# Altium footprint library PcbLib1.PcbLib: 42 footprints (part 1 of 3)
Each footprint in its own frame and in the unit in brackets; x right, y up, seen from the top. Pads: shape width x height; smd on the part's side, far side on the other; paste and mask are expansions set on the pad; w line width, h text height; cw(c..) or ccw(c..) is an arc to the next point about the centre after c.
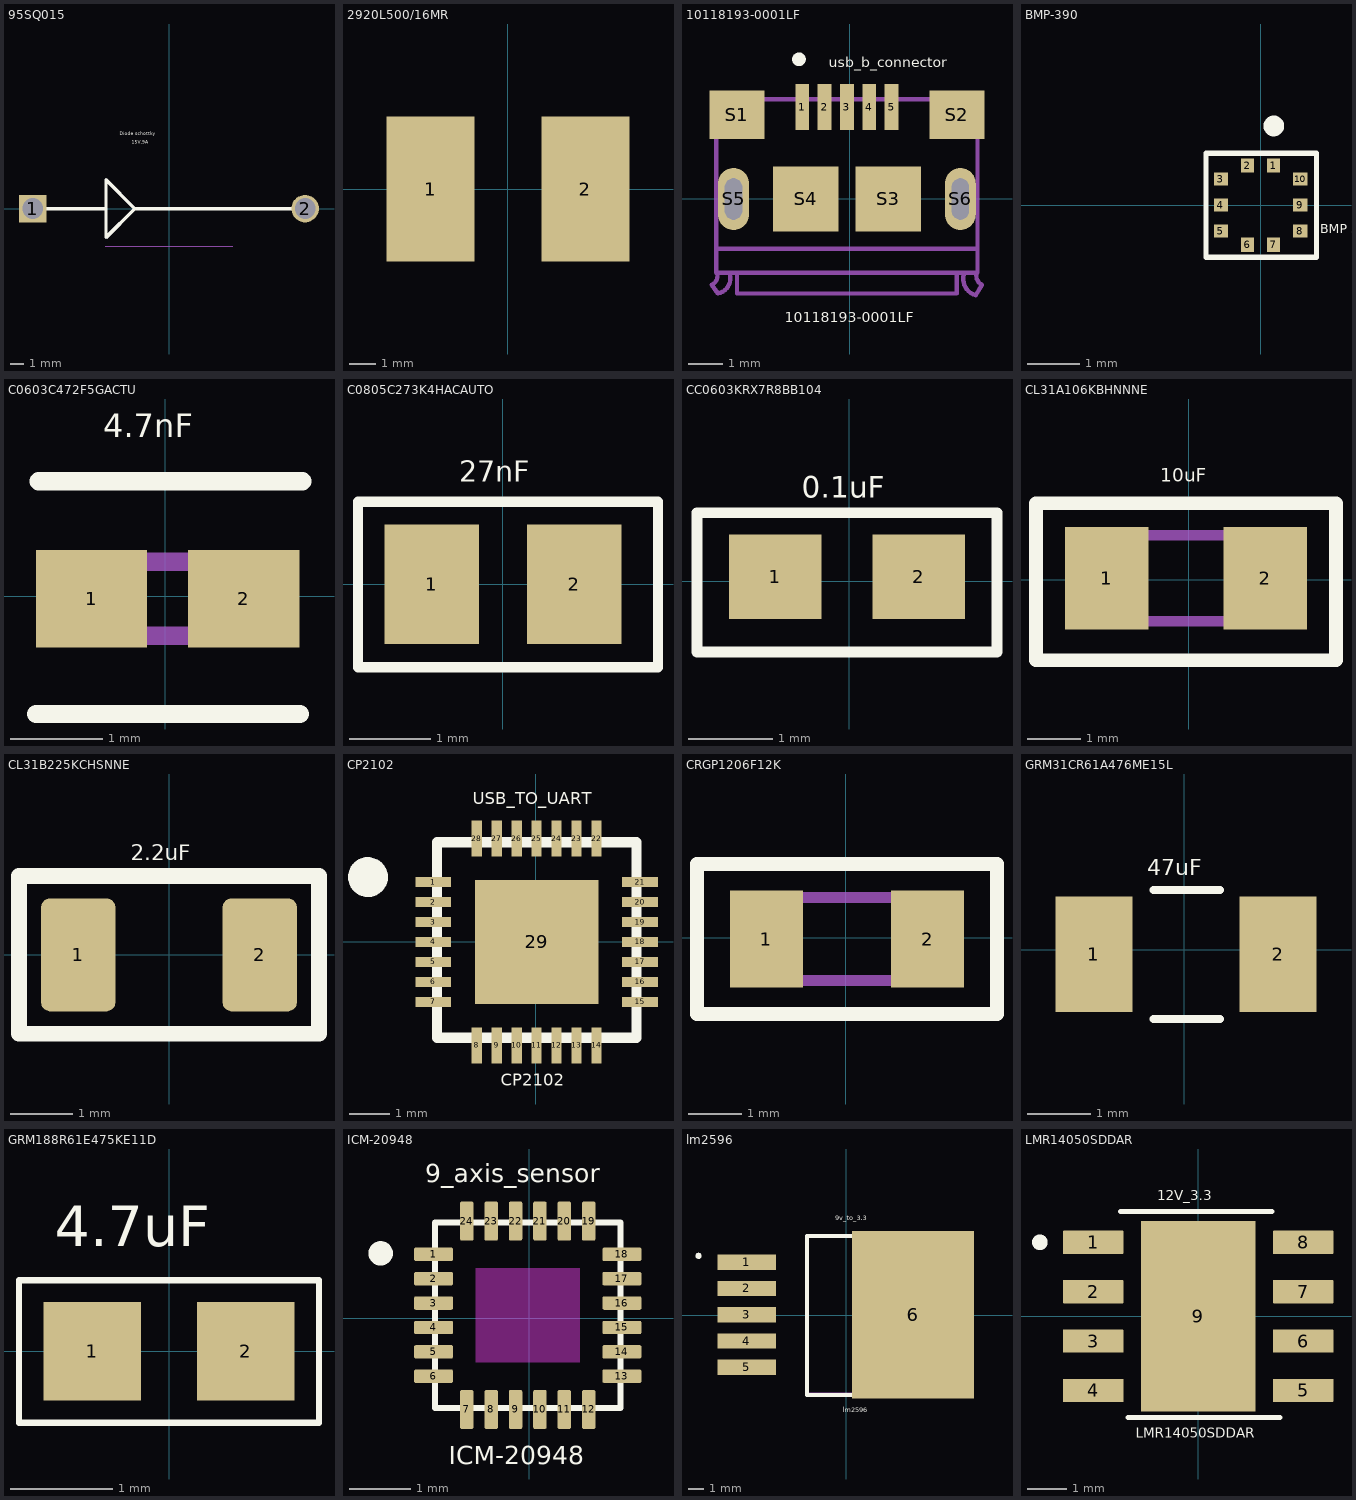
[diagram p0: the footprints below, top view; thin cyan lines are the x and y axes]

## 95SQ015 [mil] "DIODE SCHOTTKY 15V 9A DO201AD"
pads (2):
  rect 81x81 / inner round 60 / far side rect 81x81 hole 61 paste-99999 mask+0: 1(-400,0)
  round 81 / inner round 60 / far side round 81 hole 61 paste-99999 mask+0: 2(400,0)
Top Overlay:
  lines w10: -400,0 -185,0 ; 400,0 -100,0 ; -185,0 -185,85 -100,0 ; -185,0 -185,-85 -100,0
  text "Diode schottky" at -145,215 h10
  text "15V,9A" at -110,190 h10
Mechanical 13:
  lines w1: -187,-110 187,-110
3D body "CR_DO-201AD_SDS.step": height 220.04, standoff -100, extent -425.51,-109.63 425.51,109.63

## 2920L500/16MR [mm] "C207091"
pads (2):
  rect 3.3x5.45 smd: 1(-2.9,0) 2(2.9,0)
3D body "FUSE_2920L50016_LTF.step": height 1.52, standoff 0, extent -4.062,-2.667 3.812,2.667

## 10118193-0001LF [mm]
pads (11):
  rect 0.4x1.35 smd: 1(-1.375,2.675) 2(-0.725,2.675) 3(-0.075,2.675) 4(0.575,2.675) 5(1.225,2.675)
  rect 1.6x1.4 smd: S1(-3.275,2.45) S2(3.125,2.45)
  rect 1.9x1.9 smd: S3(1.125,0) S4(-1.275,0)
  oval 0.9x1.8 hole 0.5 slot 1.2 at 90 deg: S5(-3.375,0) S6(3.225,0)
Top Overlay:
  circle w0.2: c-1.472,4.064 r0.1
  text "usb_b_connector" at -0.61,3.833 h0.3
  text "10118193-0001LF" at -1.88,-3.583 h0.3
Mechanical 13:
  lines w0.127: -4.005,-2.5 -3.825,-2.75 ; -4.005,-2.5 ccw(c-4.14,-2.235) -3.875,-2.1 ; -3.875,-1.45 3.725,-1.45 ; -3.821,-2.749 ccw(c-3.925,-2.3) -3.476,-2.196 ; -3.275,-2.2 -3.275,-2.75 3.125,-2.75 3.125,-2.2 ; 3.326,-2.198 ccw(c3.8,-2.325) 3.673,-2.799 ; 3.675,-2.8 3.855,-2.5 ; 3.725,-2.1 ccw(c3.99,-2.235) 3.855,-2.5 ; -3.875,-2.1 -3.875,-2.15 3.725,-2.15 3.725,-1.45 ; -3.875,-2.1 -3.875,2.9 3.725,2.9 3.725,-1.45
3D body "step_temp.STEP": height 2.85, standoff -0.75, extent -4.005,-2.76 3.855,2.95

## BMP-390 [mm]
pads (10):
  rect 0.25x0.275 smd: 1(0.25,0.763) 2(-0.25,0.763) 6(-0.25,-0.762) 7(0.25,-0.762)
  rect 0.275x0.25 smd: 3(-0.762,0.5) 4(-0.762,0) 5(-0.762,-0.5) 8(0.763,-0.5) 9(0.763,0) 10(0.763,0.5)
Top Overlay:
  circle w0.2: c0.254,1.524 r0.1
  lines w0.1: -1.05,-1 1.075,-1 1.075,1 -1.05,1 -1.05,-1
  text "BMP 390" at -4.318,-0.381 h0
  text "BMP 390" at 1.15,-0.597 h0.3
3D body "step_temp.STEP": height 0.8, standoff 0, extent -1,-1 1,1

## C0603C472F5GACTU [mil] "50V 4.7nF C0G 0603 Ceramic Capacitors ROHS"
pads (2):
  rect 47.5x41.66 smd paste+0 mask+0: 1(-31.53,-0.98) 2(33.5,-0.98)
Top Overlay:
  lines w7.87: -55.12,-50.2 57.41,-50.2 ; -54.13,49.21 58.39,49.21
  text "4.7nF" at -26.56,67.93 h10
Top 3D Body:
  lines w7.87: -30.51,-16.73 32.48,-16.73 32.48,14.76 -30.51,14.76 -30.51,-16.73
3D body "Cap_KEMET_C0603C272M5JACTU_eec.STEP": height 10, standoff 0, extent -74.96,-41.5 76.93,39.53

## C0805C273K4HACAUTO [mm] "16V 27nF X8R ±10% 0805 Ceramic Capacitors ROHS"
pads (2):
  rect 1.16x1.47 smd: 1(-0.875,0) 2(0.875,0)
Top Overlay:
  lines w0.127: -1.778,-1.016 1.905,-1.016 1.905,1.016 -1.778,1.016 -1.778,-1.016
  text "27nF" at -0.537,1.261 h0.25
3D body "step_temp.STEP": height 1.2, standoff 0, extent -1,-0.625 1,0.625

## CC0603KRX7R8BB104 [mm] "25V 100nF X7R ±10% 0603 Ceramic Capacitors ROHS"
pads (2):
  rect 1.1x1 smd: 1(-0.875,0.05) 2(0.825,0.05)
Top Overlay:
  lines w0.127: -1.803,-0.839 1.753,-0.839 1.753,0.812 -1.803,0.812 -1.803,-0.839
  text "0.1uF" at -0.562,0.991 h0.25
3D body "step_temp.STEP": height 0.9, standoff 0, extent -0.825,-0.35 0.775,0.45

## CL31A106KBHNNNE [mm] "50V 10uF X5R ±10% 1206 Ceramic Capacitors ROHS"
pads (2):
  rect 1.554x1.906 smd paste+0 mask+0: 1(-1.526,0.025) 2(1.426,0.025)
Top Overlay:
  lines w0.254: -2.844,-1.499 2.744,-1.499 2.744,1.422 -2.844,1.422 -2.844,-1.499
  text "10uF" at -0.533,1.828 h0.25
Top 3D Body:
  lines w0.2: -1.65,-0.775 -1.65,0.825 1.55,0.825 1.55,-0.775 -1.65,-0.775
3D body "Cap_Samsung_CL31A106KBHNNNE_eec.STEP": height 0.25, standoff 0, extent -2.803,-1.428 2.703,1.478

## CL31B225KCHSNNE [mm]
pads (2):
  rrect25% 1.2x1.82 smd: 1(-1.46,0) 2(1.46,0)
Top Overlay:
  lines w0.254: -2.413,-1.27 2.413,-1.27 2.413,1.27 -2.413,1.27 -2.413,-1.27
  text "2.2uF" at -0.614,1.525 h0.25
3D body "step_temp.STEP": height 1.8, standoff 0, extent -1.6,-0.8 1.6,0.8

## CP2102 [mm]
pads (29):
  rect 0.9x0.254 smd: 1(-2.565,1.5) 2(-2.565,1) 3(-2.565,0.5) 4(-2.565,0) 5(-2.565,-0.5) 6(-2.565,-1) 7(-2.565,-1.5) 15(2.615,-1.5) 16(2.615,-1) 17(2.615,-0.5) 18(2.615,0) 19(2.615,0.5) 20(2.615,1) 21(2.615,1.5)
  rect 0.254x0.9 smd: 8(-1.475,-2.59) 9(-0.975,-2.59) 10(-0.475,-2.59) 11(0.025,-2.59) 12(0.525,-2.59) 13(1.025,-2.59) 14(1.525,-2.59) 22(1.525,2.59) 23(1.025,2.59) 24(0.525,2.59) 25(0.025,2.59) 26(-0.475,2.59) 27(-0.975,2.59) 28(-1.475,2.59)
  rect 3.1x3.1 smd paste-3: 29(0.025,0)
Top Overlay:
  circle w0.5: c-4.2,1.625 r0.25
  lines w0.254: -2.475,-2.4 2.525,-2.4 2.525,2.5 -2.475,2.5 -2.475,-2.4
  text "CP2102" at -0.875,-3.6 h0.3
  text "USB_TO_UART" at -1.575,3.45 h0.3
Top Paste:
  region: 1.525,-1.503 0.275,-1.503 0.275,-0.25 1.525,-0.25
  region: -0.225,-1.503 -1.478,-1.503 -1.478,-0.25 -0.225,-0.25
  region: 1.525,0.25 0.275,0.25 0.275,1.5 1.525,1.5
  region: -0.225,0.25 -1.477,0.25 -1.477,1.5 -0.225,1.5
3D body "step_temp.STEP": height 1, standoff 0, extent -2.475,-2.5 2.525,2.5

## CRGP1206F12K [mm] "12 kOhms ±1% 0.5W, 1/2W Chip Resistor 1206 (3216 Metric) Automotive AEC-Q200, Pulse Withstanding Thick Film"
pads (2):
  rect 1.356x1.81 smd paste+0 mask+0: 1(-1.476,-0.025) 2(1.526,-0.025)
Top Overlay:
  lines w0.254: -2.769,-1.422 2.819,-1.422 2.819,1.372 -2.769,1.372 -2.769,-1.422
Top 3D Body:
  lines w0.2: -1.525,-0.8 1.575,-0.8 1.575,0.75 -1.525,0.75 -1.525,-0.8
3D body "Res_TE_CRGP1206F4K7_eec.STEP": height 0.25, standoff 0, extent -2.654,-1.43 2.704,1.38

## GRM31CR61A476ME15L [mm] "10V 47uF X5R ±20% 1206 Ceramic Capacitors ROHS"
pads (2):
  rect 1.21x1.82 smd: 1(-1.425,-0.075) 2(1.475,-0.075)
Top Overlay:
  lines w0.127: -0.483,-1.091 0.557,-1.091 ; -0.483,0.941 0.557,0.941
  text "47uF" at -0.587,1.171 h0.25
3D body "step_temp.STEP": height 1.8, standoff 0, extent -1.575,-0.875 1.625,0.725

## GRM188R61E475KE11D [mm] "25V 4.7uF X5R ±10% 0603 Ceramic Capacitors ROHS"
pads (2):
  rect 0.96x0.97 smd: 1(-0.755,0) 2(0.755,0)
Top Overlay:
  lines w0.064: -1.475,-0.7 1.475,-0.7 1.475,0.7 -1.475,0.7 -1.475,-0.7
  text "4.7uF" at -1.123,1.036 h0.4
3D body "step_temp.STEP": height 0.95, standoff 0, extent -0.8,-0.4 0.8,0.4

## ICM-20948 [mm]
pads (24):
  rrect25% 0.64x0.22 smd: 1(-1.57,1.05) 2(-1.57,0.65) 3(-1.57,0.25) 4(-1.57,-0.15) 5(-1.57,-0.55) 6(-1.57,-0.95) 13(1.52,-0.95) 14(1.52,-0.55) 15(1.52,-0.15) 16(1.52,0.25) 17(1.52,0.65) 18(1.52,1.05)
  rrect25% 0.22x0.64 smd: 7(-1.025,-1.495) 8(-0.625,-1.495) 9(-0.225,-1.495) 10(0.175,-1.495) 11(0.575,-1.495) 12(0.975,-1.495) 19(0.975,1.595) 20(0.575,1.595) 21(0.175,1.595) 22(-0.225,1.595) 23(-0.625,1.595) 24(-1.025,1.595)
Top Overlay:
  circle w0.2: c-2.438,1.066 r0.1
  lines w0.1: -1.549,-1.474 1.499,-1.474 1.499,1.574 -1.549,1.574 -1.549,-1.474
  text "9_axis_sensor" at -1.703,2.232 h0.3
  text "ICM-20948" at -1.322,-2.39 h0.3
Keep-Out Layer:
  region: 0.825,-0.72 -0.875,-0.72 -0.875,0.82 0.825,0.82
3D body "step_temp.STEP": height 1, standoff -0.05, extent -1.525,-1.45 1.475,1.55

## lm2596 [mm]
pads (6):
  rect 3.79x0.99 smd: 1(-6.425,3.425) 2(-6.425,1.725) 3(-6.425,0.025) 4(-6.425,-1.675) 5(-6.425,-3.375)
  rect 7.88x10.84 smd paste-6: 6(4.325,0.025)
Top Overlay:
  circle w0.2: c-9.55,3.835 r0.1
  lines w0.254: -2.525,-5.175 6.343,-5.175 6.343,5.125 -2.525,5.125 -2.525,-5.175
  text "lm2596" at -0.225,-6.275 h0.3
  text "9v_to_3.3" at -0.7,6.125 h0.3
Top Paste:
  region: 7.715,-5.125 6.195,-5.125 6.195,-3.875 7.715,-3.875
  region: 2.455,-5.125 0.935,-5.125 0.935,-3.875 2.455,-3.875
  region: 5.085,-5.125 3.565,-5.125 3.565,-3.875 5.085,-3.875
  region: 7.715,-3.315 6.195,-3.315 6.195,-2.065 7.715,-2.065
  region: 2.455,-3.315 0.935,-3.315 0.935,-2.065 2.455,-2.065
  region: 5.085,-3.315 3.565,-3.315 3.565,-2.065 5.085,-2.065
  region: 7.715,-1.505 6.195,-1.505 6.195,-0.255 7.715,-0.255
  region: 2.455,-1.505 0.935,-1.505 0.935,-0.255 2.455,-0.255
  region: 5.085,-1.505 3.565,-1.505 3.565,-0.255 5.085,-0.255
  region: 7.715,3.925 6.195,3.925 6.195,5.175 7.715,5.175
  region: 2.455,3.925 0.935,3.925 0.935,5.175 2.455,5.175
  region: 5.085,3.925 3.565,3.925 3.565,5.175 5.085,5.175
  region: 7.715,2.115 6.195,2.115 6.195,3.365 7.715,3.365
  region: 2.455,2.115 0.935,2.115 0.935,3.365 2.455,3.365
  region: 5.085,2.115 3.565,2.115 3.565,3.365 5.085,3.365
  region: 7.715,0.305 6.195,0.305 6.195,1.555 7.715,1.555
  region: 2.455,0.305 0.935,0.305 0.935,1.555 2.455,1.555
  region: 5.085,0.305 3.565,0.305 3.565,1.555 5.085,1.555
Mechanical 13:
  lines w0.127: -2.578,-5.055 -2.578,5.105 6.343,5.105 6.343,-5.055 -2.578,-5.055
3D body "step_temp.STEP": height 4.65, standoff -0.15, extent -7.201,-5.055 7.15,5.105

## LMR14050SDDAR [mm] "SIMPLE SWITCHER® 40-V, 5-A, 2.2-MHz step-down converter with 40-μA IQ"
pads (9):
  rrect5% 1.55x0.6 smd mask+0: 1(-2.7,1.905) 2(-2.7,0.635) 3(-2.7,-0.635) 4(-2.7,-1.905) 5(2.7,-1.905) 6(2.7,-0.635) 7(2.7,0.635) 8(2.7,1.905)
  rect 2.95x4.9 smd paste-3 mask+0: 9(0,0)
Top Overlay:
  circle w0.2: c-4.07,1.905 r0.1
  lines w0.127: -2,2.7 1.9,2.7 ; -1.8,-2.6 2.1,-2.6
  text "LMR14050SDDAR" at -1.6,-3.124 h0.25
  text "12V_3.3" at -1.049,2.993 h0.25
Top Paste:
  region: 1.355,-1.7 -1.355,-1.7 -1.355,1.7 1.355,1.7
Top Solder:
  drawing of 9 lines, arcs and shapes, not listed
3D body "step_temp.STEP": height 1.7, standoff 0, extent -3,-2.45 3,2.45